# Altium schematic symbol library MT_Device.SchLib: 84 symbols
Pins are listed as number, name and electrical type; pins without a type are passive.

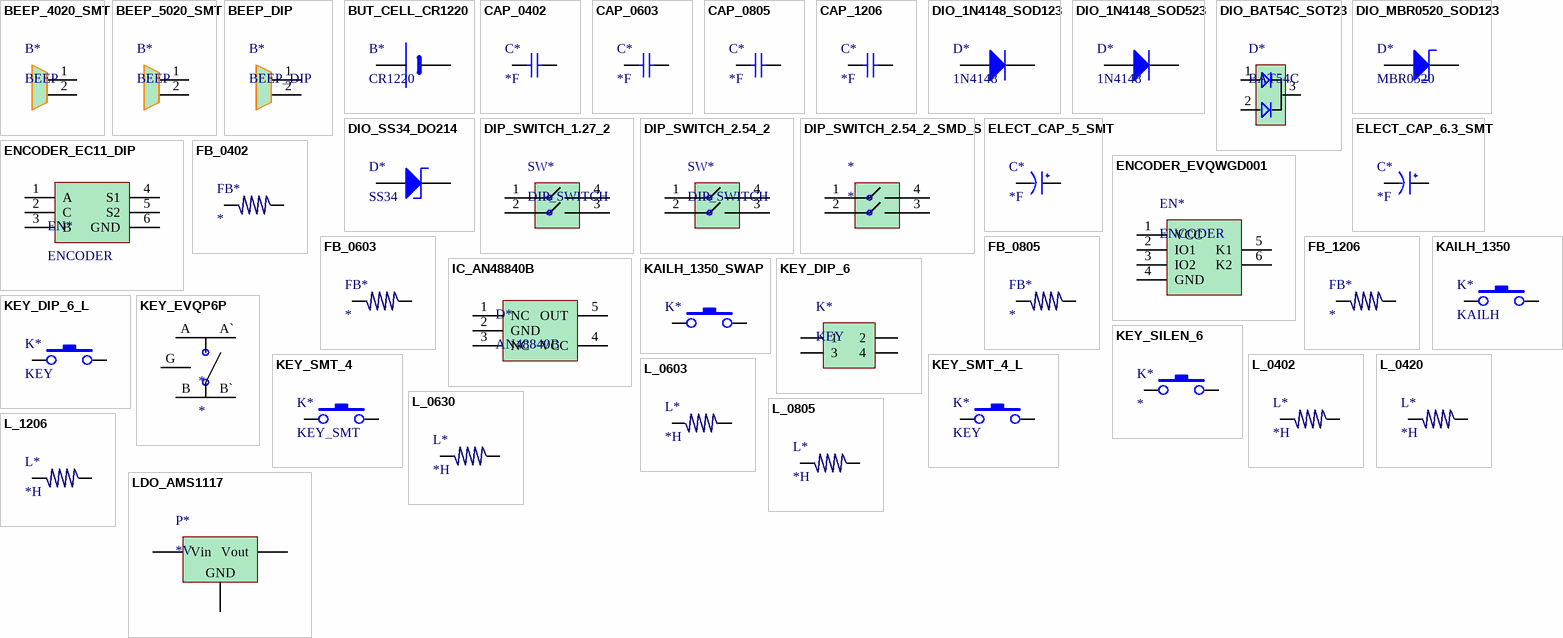
[diagram p0: symbols BEEP_4020_SMT to LDO_AMS1117]

## BEEP_4020_SMT
designator B*, comment BEEP
贴片蜂鸣器
footprint BEEP_4020_SMT
pins: 1, 2

## BEEP_5020_SMT
designator B*, comment BEEP
贴片蜂鸣器
footprint BEEP_5020_SMT
pins: 1, 2
1 alternate drawing of the same symbol

## BEEP_DIP
designator B*
直插蜂鸣器
footprint BEEP_DIP
pins: 1, 2

## BUT_CELL_CR1220
designator B*, comment CR1220
纽扣电池座 1220
footprint BUT_CELL_CR1220
pins: 1 VCC, 2 GND

## CAP_0402
designator C*, comment *F
贴片电容 0402
footprint 0402
pins: 1, 2

## CAP_0603
designator C*, comment *F
贴片电容 0603
footprint 0603
pins: 1, 2

## CAP_0805
designator C*, comment *F
贴片电容 0805
footprint 0805
pins: 1, 2

## CAP_1206
designator C*, comment *F
贴片电容 1206
footprint 1206
pins: 1, 2

## DIO_1N4148_SOD123
designator D*, comment 1N4148
开关二极管
footprint SOD123
pins: 1 A, 2 K

## DIO_1N4148_SOD523
designator D*, comment 1N4148
开关二极管
footprint SOD523
pins: 1 A, 2 K

## DIO_BAT54C_SOT23
designator D*, comment BAT54C
肖特基二极管
footprint SOT23
pins: 1, 2, 3

## DIO_MBR0520_SOD123
designator D*, comment MBR0520
肖特基二极管
footprint SOD123
pins: 1 A, 2 K

## DIO_SS34_DO214
designator D*, comment SS34
肖特基二极管
footprint DO214
pins: 1 A, 2 K

## DIP_SWITCH_1.27_2
designator SW*, comment DIP_SWITCH
双路拨码开关 1.27mm
footprint DIP_SWITCH_1.27_2
pins: 1, 2, 3, 4

## DIP_SWITCH_2.54_2
designator SW*, comment DIP_SWITCH
双路拨码开关 2.54mm
footprint DIP_SWITCH_2.54_2
pins: 1, 2, 3, 4

## DIP_SWITCH_2.54_2_SMD_S
designator *
双路贴片立式拨码开关
footprint DIP_SWITCH_2.54_2_SMD_S
pins: 1, 2, 3, 4

## ELECT_CAP_5_SMT
designator C*, comment *F
贴片铝电解电容 5mm
footprint CAP_SMD_D5.4
pins: 1 VCC, 2 GND

## ELECT_CAP_6.3_SMT
designator C*, comment *F
贴片铝电解电容 6.3mm
footprint CAP_SMD_D6.3
pins: 1 VCC, 2 GND

## ENCODER_EC11_DIP
designator EN*, comment ENCODER
直插直立旋转编码器
footprint ENCODER_EC11_DIP
pins: 1 A, 2 C, 3 B, 4 S1, 5 S2, 6 GND

## ENCODER_EVQWGD001
designator EN*, comment ENCODER
直插卧式旋转编码器
footprint ENCODER_EVQWGD001
pins: 1 VCC, 2 IO1, 3 IO2, 4 GND, 5 K1, 6 K2

## FB_0402
designator FB*
磁珠 0402
footprint 0402
pins: 1, 2

## FB_0603
designator FB*
磁珠 0603
footprint 0603
pins: 1, 2

## FB_0805
designator FB*
磁珠 0805
footprint 0805
pins: 1, 2

## FB_1206
designator FB*
磁珠 1206
footprint 1206
pins: 1, 2

## IC_AN48840B
designator D*, comment AN48840B
High sensitivity CMOS Hall IC, Alternating magnetic field operation
footprint SMINI-5DA
pins: 1 NC, 2 GND, 3 NC, 4 VCC, 5 OUT

## KAILH_1350
designator K*, comment KAILH
凯华机械矮轴1350
footprint KAILH_1350
pins: 1, 2

## KAILH_1350_SWAP
designator K*, comment KAILH  (value not drawn)
凯华机械矮轴1350用热插拔轴座
footprint KAILH_1350_HOTSWAP
pins: 1, 2

## KEY_DIP_6
designator K*, comment KEY
直插立式按键 6mm
footprint KEY_DIP_6
pins: 1, 2, 3, 4

## KEY_DIP_6_L
designator K*, comment KEY
直插卧式按键 6mm
footprint KEY_DIP_6_L
pins: 1, 2

## KEY_EVQP6P
designator *
贴片按键
footprint KEY_EVQP6P
pins: A, A`, B, B`, G

## KEY_SILEN_6
designator K*
贴片静音按键 6mm
footprint KEY_SILEN_6
pins: 1, 2

## KEY_SMT_4
designator K*, comment KEY_SMT
贴片立式按键 4mm
footprint KEY_SMT_4
pins: 1, 2

## KEY_SMT_4_L
designator K*, comment KEY
卧式贴片按键 2*4*3.5mm
footprint KEY_SMT_4_L
pins: 1, 2

## L_0402
designator L*, comment *H
电感 0402
footprint 0402
pins: 1, 2

## L_0420
designator L*, comment *H
电感 0420
footprint L_0420
pins: 1, 2

## L_0603
designator L*, comment *H
电感 0603
footprint 0603
pins: 1, 2

## L_0630
designator L*, comment *H
电感 0630
footprint L_0630
pins: 1, 2

## L_0805
designator L*, comment *H
电感 0805
footprint 0805
pins: 1, 2

## L_1206
designator L*, comment *H
电感 1206
footprint 1206
pins: 1, 2

## LDO_AMS1117
designator P*, comment *V
线性稳压器
footprint SOT223
pins: 1 GND, 2 Vout, 3 Vin

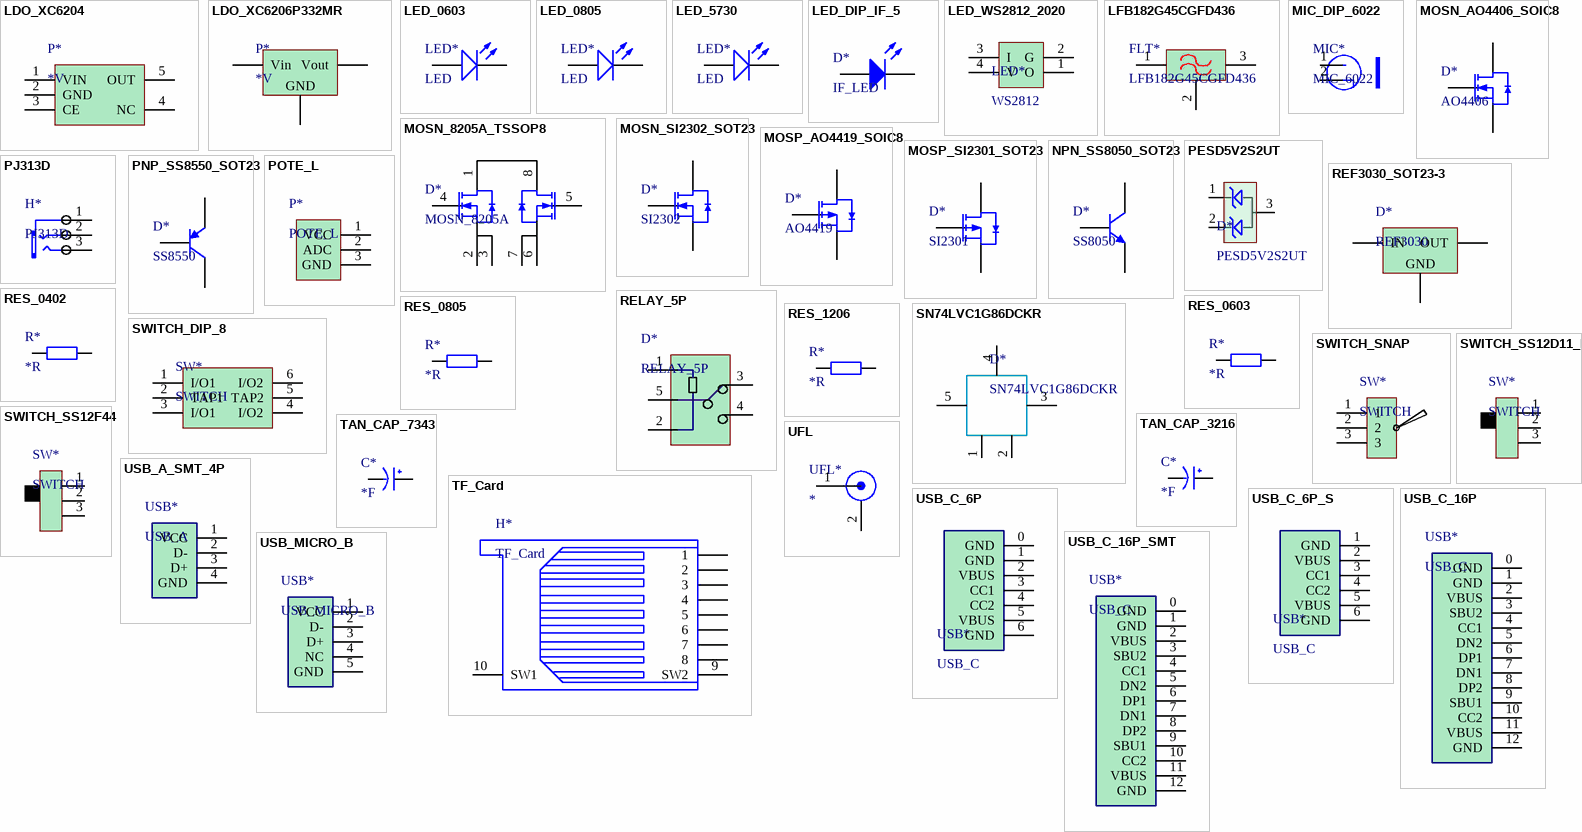
[diagram p1: symbols LDO_XC6204 to USB_MICRO_B]

## LDO_XC6204
designator P*, comment *V
线性稳压器
footprint SOT25
pins: 1 VIN, 2 GND, 3 CE, 4 NC, 5 OUT

## LDO_XC6206P332MR
designator P*, comment *V
线性稳压器
footprint SOT23
pins: 1 GND, 2 Vout, 3 Vin

## LED_0603
designator LED*, comment LED
LED 0603
footprint LED_0603
pins: A, K

## LED_0805
designator LED*, comment LED
LED 0805
footprint LED_0805
pins: A, K

## LED_5730
designator LED*, comment LED
LED 5730
footprint LED_5730
pins: 1 K, 2 A

## LED_DIP_IF_5
designator D*, comment IF_LED
直插红外LED
footprint LED_DIP_5
pins: 1 A, 2 K

## LED_WS2812_2020
designator LED*, comment WS2812
WS2812 LED
footprint LED_WS2812_2020
pins: 1 O, 2 G, 3 I, 4 V

## LFB182G45CGFD436
designator FLT*
2450Mhz带通滤波器
pins: 1, 2, 3

## MIC_DIP_6022
designator MIC*, comment MIC_6022
直插麦克风 6022
footprint MIC_DIP_6022
pins: 1 VCC, 2 GND

## MOSN_8205A_TSSOP8
designator D*, comment MOSN_8205A
NMOS
footprint TSSOP8
pins: 1 D1, 2 S1, 3 S1, 4 G1, 5 G2, 6 S2, 7 S2, 8 D2

## MOSN_AO4406_SOIC8
designator D*, comment AO4406
NMOS
footprint SOIC8_MOS
pins: 1 G, 2 D, 3 S

## MOSN_SI2302_SOT23
designator D*, comment SI2302
NMOS
footprint SOT23
pins: 1 G, 2 S, 3 D

## MOSP_AO4419_SOIC8
designator D*, comment AO4419
PMOS
footprint SOIC8_MOS
pins: 1 G, 2 D, 3 S

## MOSP_SI2301_SOT23
designator D*, comment SI2301
PMOS
footprint SOT23
pins: 1 G, 2 S, 3 D

## NPN_SS8050_SOT23
designator D*, comment SS8050
NPN DIODE
footprint SOT23
pins: 1 B, 2 E, 3 C

## PESD5V2S2UT
designator D*
ESD DIODE
footprint SOT23
pins: 1, 2, 3

## PJ313D
designator H*
3.5mm耳机插座
footprint PJ313D
pins: 1 COM, 2 CHR, 3 CHL

## PNP_SS8550_SOT23
designator D*, comment SS8550
PNP DIODE
footprint SOT23
pins: 1 B, 2 E, 3 C

## POTE_L
designator P*
直插卧式电位器
footprint POTE_L
pins: 1 VCC, 2 ADC, 3 GND

## REF3030_SOT23-3
designator D*, comment REF3030
电压基准芯片
footprint SOT23
pins: 1 IN, 2 OUT, 3 GND

## RELAY_5P
designator D*
直插继电器
footprint RELAY_5P
pins: 1, 2, 3, 4, 5

## RES_0402
designator R*, comment *R
电阻 0402
footprint R_0402
pins: 1, 2

## RES_0603
designator R*, comment *R
电阻 0603
footprint R_0603
pins: 1, 2

## RES_0805
designator R*, comment *R
电阻 0805
footprint R_0805
pins: 1, 2

## RES_1206
designator R*, comment *R
电阻 1206
footprint R_1206
pins: 1, 2

## SN74LVC1G86DCKR
designator D*
异或门
footprint SOT353
pins: 1, 2, 3, 4, 5

## SWITCH_DIP_8
designator SW*, comment SWITCH
直插6脚开关8mm
footprint SWITCH_DIP_8
pins: 1 I/O1, 2 TAP1, 3 I/O1, 4 I/O2, 5 TAP2, 6 I/O2

## SWITCH_SNAP
designator SW*, comment SWITCH
扭子开关
footprint SWITCH_SNAP
pins: 1, 2, 3

## SWITCH_SS12D11_L
designator SW*, comment SWITCH
直插卧式3A滑动开关
footprint SWITCH_SS12D11_L
pins: 1, 2, 3

## SWITCH_SS12F44
designator SW*, comment SWITCH
直插0.3A滑动开关
footprint SWITCH_SS12F44
pins: 1, 2, 3

## TAN_CAP_3216
designator C*, comment *F
钽电容 3216
footprint TAN_CAP_3216
pins: 1 VCC, 2 GND

## TAN_CAP_7343
designator C*, comment *F
钽电容 7343
footprint TAN_CAP_7343
pins: 1 VCC, 2 GND

## TF_Card
designator H*
TF卡座
footprint TF_card
pins: 1, 2, 3, 4, 5, 6, 7, 8, 9 SW2, 10 SW1

## UFL
designator UFL*
射频接口
footprint IPEX
pins: 1, 2

## USB_A_SMT_4P
designator USB*, comment USB_A
贴片4脚USB A母座
footprint USB_A_SMT_4P
pins: 1 VCC, 2 D-, 3 D+, 4 GND

## USB_C_6P
designator USB*, comment USB_C
大电流USB C母座
footprint USB_C_6P
pins: 0 GND, 1 GND, 2 VBUS, 3 CC1, 4 CC2, 5 VBUS, 6 GND

## USB_C_6P_S
designator USB*, comment USB_C
立式大电流USB C母座
footprint USB_C_6P_S
pins: 1 GND, 2 VBUS, 3 CC1, 4 CC2, 5 VBUS, 6 GND

## USB_C_16P
designator USB*, comment USB_C
USB C母座
footprint USB_C_16P
pins: 0 GND, 1 GND, 2 VBUS, 3 SBU2, 4 CC1, 5 DN2, 6 DP1, 7 DN1, 8 DP2, 9 SBU1, 10 CC2, 11 VBUS, 12 GND

## USB_C_16P_SMT
designator USB*, comment USB_C
全贴片USB C母座
footprint USB_C_16P_SMT
pins: 0 GND, 1 GND, 2 VBUS, 3 SBU2, 4 CC1, 5 DN2, 6 DP1, 7 DN1, 8 DP2, 9 SBU1, 10 CC2, 11 VBUS, 12 GND

## USB_MICRO_B
designator USB*
USB MICRO B母座
footprint USB_MICRO_B
pins: 1 VCC, 2 D-, 3 D+, 4 NC, 5 GND

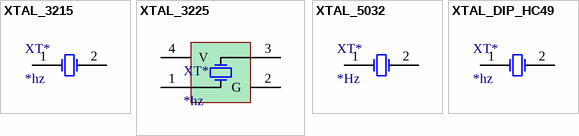
[diagram p2: symbols XTAL_3215 to XTAL_DIP_HC49]

## XTAL_3215
designator XT*, comment *hz
贴片无源晶振
footprint XTAL_3215
pins: 1 OSC1, 2 OSC2

## XTAL_3225
designator XT*, comment *hz
贴片有源晶振
footprint XTAL_3225
pins: 1 EC, 2 G, 3 OP, 4 V

## XTAL_5032
designator XT*, comment *Hz
贴片无源晶振
footprint XTAL_5032
pins: 1 OSC1, 2 OSC2

## XTAL_DIP_HC49
designator XT*, comment *hz
HC49直插无源晶振
footprint XTAL_DIP_HC49
pins: 1 OSC1, 2 OSC2